# Altium footprint library USBB.PcbLib: 1 footprints
Each footprint in its own frame and in the unit in brackets; x right, y up, seen from the top. Pads: shape width x height; smd on the part's side, far side on the other; paste and mask are expansions set on the pad; w line width, h text height; cw(c..) or ccw(c..) is an arc to the next point about the centre after c.
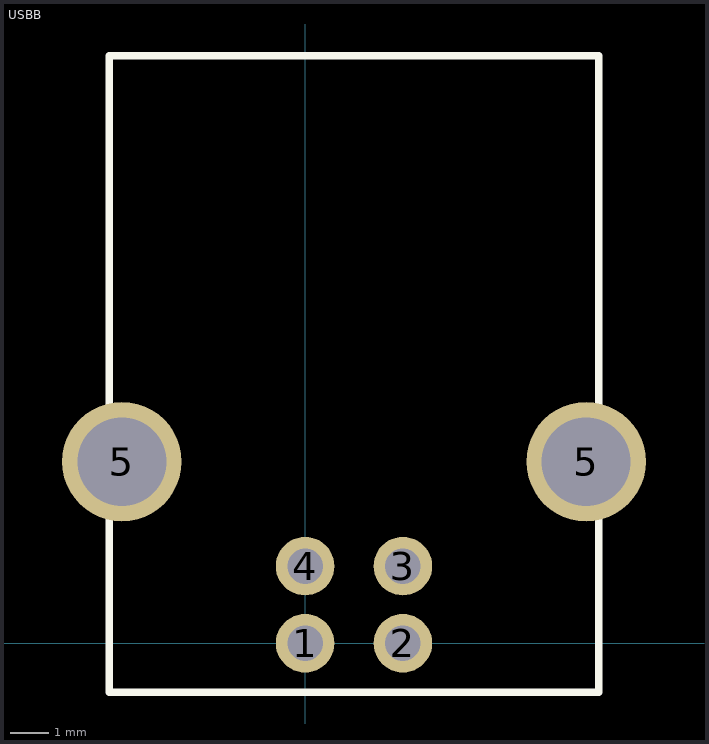
[diagram p0: the footprint, top view; thin cyan lines are the x and y axes]

## USBB [mm]
pads (6):
  round 1.52 hole 0.92: 1(0,0) 2(2.54,0) 3(2.54,2) 4(0,2)
  round 3.1 hole 2.3: 5(-4.75,4.71) 5(7.29,4.71)
Top Overlay:
  lines w0.2: -5.08,-1.27 7.62,-1.27 7.62,15.24 -5.08,15.24 -5.08,-1.27